# Altium schematic symbol library Schlib.SchLib: 1 symbol
Pins are listed as number, name and electrical type; pins without a type are passive.

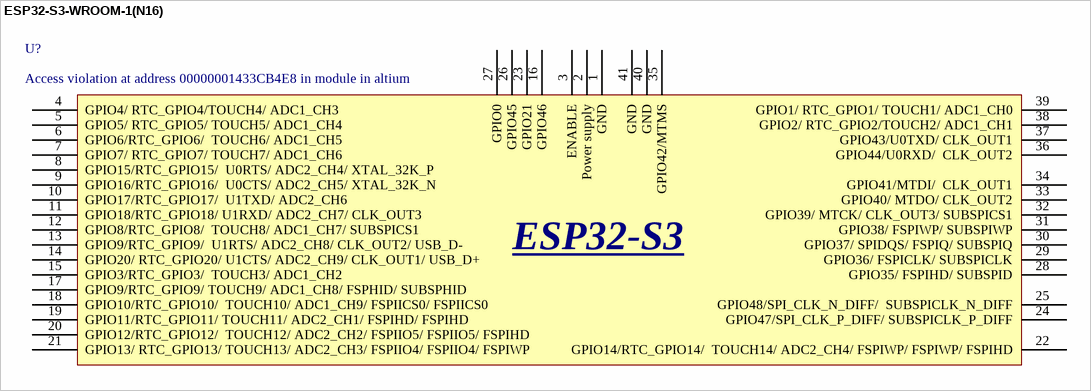
[diagram p0: symbol ESP32-S3-WROOM-1(N16)]

## ESP32-S3-WROOM-1(N16)
designator U?, comment Access violation at address 00000001433CB4E8 in module in altium
Telecom Circuit, 1-Func; Manufacturer: Espressif Systems; Manufacturer Part Number: ESP32-S3-WROOM-1(N16); Supplier: Digikey; Supplier Part Number: 1965-ESP32-S3-WROOM-1-N16CT-ND; RoHS: No; Category: LDO; Stock: 4589; Pricing: 1=3.48 (USD)
pins: 1 GND, 2 Power supply, 3 ENABLE, 4 GPIO4/ RTC_GPIO4/TOUCH4/ ADC1_CH3, 5 GPIO5/ RTC_GPIO5/ TOUCH5/ ADC1_CH4, 6 GPIO6/RTC_GPIO6/  TOUCH6/ ADC1_CH5, 7 GPIO7/ RTC_GPIO7/ TOUCH7/ ADC1_CH6, 8 GPIO15/RTC_GPIO15/  U0RTS/ ADC2_CH4/ XTAL_32K_P, 9 GPIO16/RTC_GPIO16/  U0CTS/ ADC2_CH5/ XTAL_32K_N, 10 GPIO17/RTC_GPIO17/  U1TXD/ ADC2_CH6, 11 GPIO18/RTC_GPIO18/ U1RXD/ ADC2_CH7/ CLK_OUT3, 12 GPIO8/RTC_GPIO8/  TOUCH8/ ADC1_CH7/ SUBSPICS1, 13 GPIO9/RTC_GPIO9/  U1RTS/ ADC2_CH8/ CLK_OUT2/ USB_D-, 14 GPIO20/ RTC_GPIO20/ U1CTS/ ADC2_CH9/ CLK_OUT1/ USB_D+, 15 GPIO3/RTC_GPIO3/  TOUCH3/ ADC1_CH2, 16 GPIO46, 17 GPIO9/RTC_GPIO9/ TOUCH9/ ADC1_CH8/ FSPHID/ SUBSPHID, 18 GPIO10/RTC_GPIO10/  TOUCH10/ ADC1_CH9/ FSPIICS0/ FSPIICS0, 19 GPIO11/RTC_GPIO11/ TOUCH11/ ADC2_CH1/ FSPIHD/ FSPIHD, 20 GPIO12/RTC_GPIO12/  TOUCH12/ ADC2_CH2/ FSPIIO5/ FSPIIO5/ FSPIHD, 21 GPIO13/ RTC_GPIO13/ TOUCH13/ ADC2_CH3/ FSPIIO4/ FSPIIO4/ FSPIWP, 22 GPIO14/RTC_GPIO14/  TOUCH14/ ADC2_CH4/ FSPIWP/ FSPIWP/ FSPIHD, 23 GPIO21, 24 GPIO47/SPI_CLK_P_DIFF/ SUBSPICLK_P_DIFF, 25 GPIO48/SPI_CLK_N_DIFF/  SUBSPICLK_N_DIFF, 26 GPIO45, 27 GPIO0, 28 GPIO35/ FSPIHD/ SUBSPID, 29 GPIO36/ FSPICLK/ SUBSPICLK, 30 GPIO37/ SPIDQS/ FSPIQ/ SUBSPIQ, 31 GPIO38/ FSPIWP/ SUBSPIWP, 32 GPIO39/ MTCK/ CLK_OUT3/ SUBSPICS1, 33 GPIO40/ MTDO/ CLK_OUT2, 34 GPIO41/MTDI/  CLK_OUT1, 35 GPIO42/MTMS, 36 GPIO44/U0RXD/  CLK_OUT2, 37 GPIO43/U0TXD/ CLK_OUT1, 38 GPIO2/ RTC_GPIO2/TOUCH2/ ADC1_CH1, 39 GPIO1/ RTC_GPIO1/ TOUCH1/ ADC1_CH0, 40 GND, 41 GND
text: ESP32-S3